# EAGLE library part DS2-L2 (library relay)
RELAY bistable, 2 x switch, 4 A/250 V, NAiS
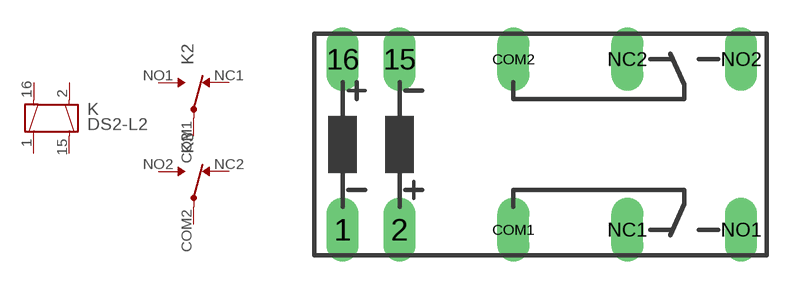
[diagram p5: symbol with the pads of DS2E-L2; footprint DS2E-L2]

Designator prefix K; gates 1=K2 2=U 3=U

## DS2-L2  [DS2E-L2]
1  1:2  pas
2  1:3  pas
15  1:4  pas
16  1:1  pas
COM1  2:COM  pas
COM2  3:COM  pas
NC1  2:NC  pas
NC2  3:NC  pas
NO1  2:NO  pas
NO2  3:NO  pas

## Footprint DS2E-L2 (pad centres in mm)
RELAY 2 x switch, 4 A/250 V, NAiS
drill 0.914 long: 1 -7.62,-3.81; 2 -5.08,-3.81; 15 -5.08,3.81; 16 -7.62,3.81; COM1 0,-3.81; COM2 0,3.81; NC1 5.08,-3.81; NC2 5.08,3.81; NO1 10.16,-3.81; NO2 10.16,3.81